# EAGLE library part MIFI_CONNECTOR_PCB (library eagleara)
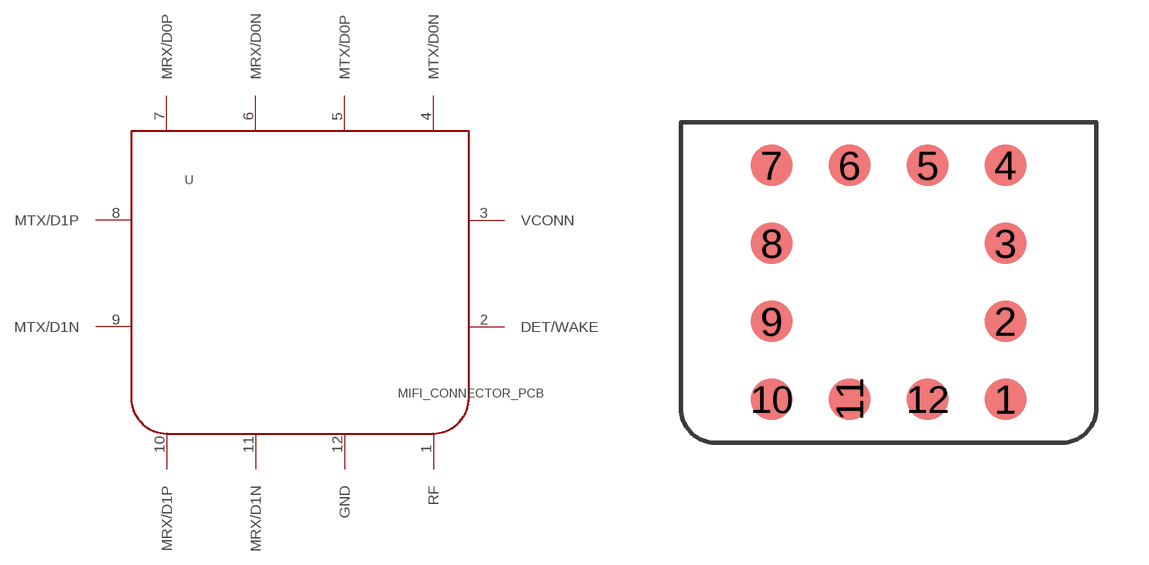
[diagram p0: symbol with the pads of B6A_MPHY; footprint B6A_MPHY]

Designator prefix -

## MIFI_CONNECTOR_PCB  [B6A_MPHY]
1  RF
2  DET/WAKE
3  VCONN
4  MTX/D0N
5  MTX/D0P
6  MRX/D0N
7  MRX/D0P
8  MTX/D1P
9  MTX/D1N
10  MRX/D1P
11  MRX/D1N
12  GND

## Footprint B6A_MPHY (pad centres in mm)
smd 1.2 x 1.2: 1 9.375,1.25; 2 9.375,3.5; 3 9.375,5.75; 4 9.375,8; 5 7.125,8; 6 4.875,8; 7 2.625,8; 8 2.625,5.75; 9 2.625,3.5; 10 2.625,1.25; 11 4.875,1.25; 12 7.125,1.25